# Altium footprint library DIOAD1898W129L762D1143.PcbLib: 1 footprints
Each footprint in its own frame and in the unit in brackets; x right, y up, seen from the top. Pads: shape width x height; smd on the part's side, far side on the other; paste and mask are expansions set on the pad; w line width, h text height; cw(c..) or ccw(c..) is an arc to the next point about the centre after c.
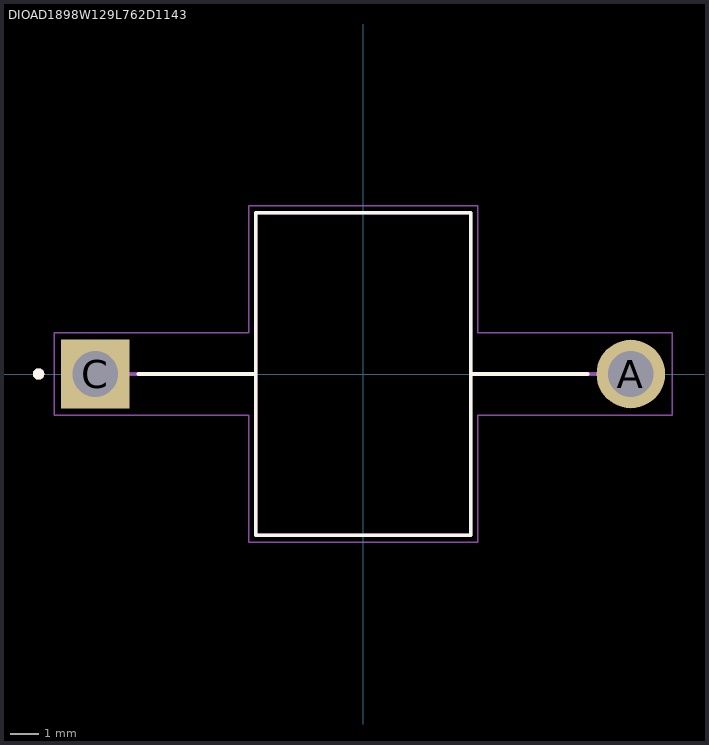
[diagram p0: the footprint, top view; thin cyan lines are the x and y axes]

## DIOAD1898W129L762D1143 [mm]
pads (2):
  round 2.43 hole 1.62: A(9.49,0)
  rect 2.43x2.43 hole 1.62: C(-9.49,0)
Top Overlay:
  circle w0.2: c-11.5,0 r0.1
  lines w0.127: -7.96,0 -3.81,0 ; 7.96,0 3.81,0 ; -3.81,0 -3.81,-5.72 3.81,-5.72 3.81,0 ; -3.81,0 -3.81,5.72 3.81,5.72 3.81,0
Mechanical 13:
  circle w0.2: c-11.5,0 r0.1
  lines w0.127: -8.275,0 -3.81,0 ; 8.275,0 3.81,0 ; -3.81,0 -3.81,-5.72 3.81,-5.72 3.81,0 ; -3.81,0 -3.81,5.72 3.81,5.72 3.81,0
Mechanical 15:
  lines w0.05: -10.955,-1.465 -10.955,1.465 -4.06,1.465 -4.06,5.97 4.06,5.97 4.06,1.465 10.955,1.465 10.955,-1.465 4.06,-1.465 4.06,-5.97 -4.06,-5.97 -4.06,-1.465 -10.955,-1.465
3D body "step_temp.STEP": height 11.5, standoff -6, extent -4.25,-3 4.25,3